# EAGLE library part TLV320AIC3100 (library everykey)
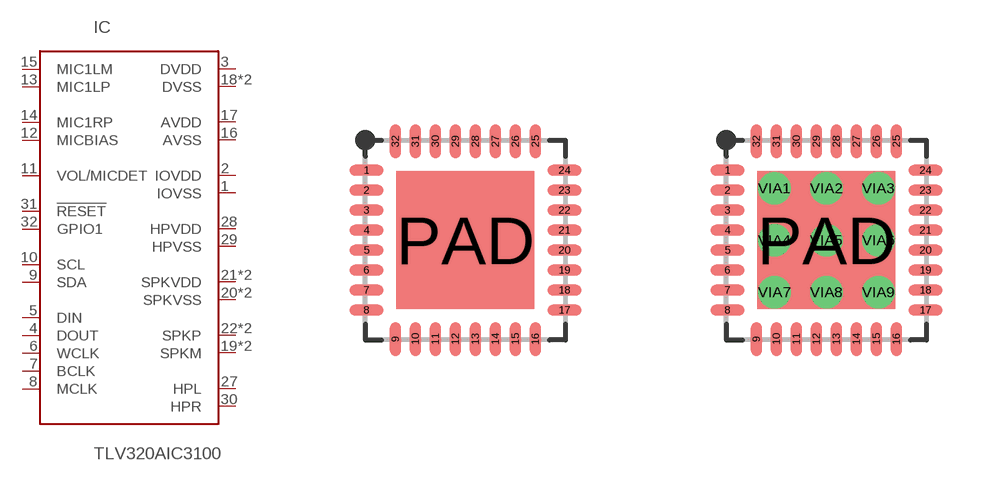
[diagram p44: symbol with the pads of QFN32-0.5-EP; footprints QFN32-0.5-EP, QFN32-0.5-EP-VIAS]

Designator prefix IC

## TLV320AIC3100QFN  [QFN32-0.5-EP]
1  IOVSS  pwr
2  IOVDD  pwr
3  DVDD  pwr
4  DOUT  out
5  DIN  in
6  WCLK  in
7  BCLK
8  MCLK  in
9  SDA
10  SCL
11  VOL/MICDET  in
12  MICBIAS  out
13  MIC1LP  in
14  MIC1RP  in
15  MIC1LM  in
16  AVSS  pwr
17  AVDD  pwr
18  DVSS  pwr
19  SPKM  out
20  SPKVSS  pwr
21  SPKVDD  pwr
22  SPKP  out
23  SPKM  out
24  SPKVDD  pwr
25  SPKVSS  pwr
26  SPKP  out
27  HPL  out
28  HPVDD  pwr
29  HPVSS  pwr
30  HPR  out
31  !RESET  in
32  GPIO1
PAD  DVSS  pwr

## TLV320AIC3100VIAS  [QFN32-0.5-EP-VIAS]
1  IOVSS  pwr
2  IOVDD  pwr
3  DVDD  pwr
4  DOUT  out
5  DIN  in
6  WCLK  in
7  BCLK
8  MCLK  in
9  SDA
10  SCL
11  VOL/MICDET  in
12  MICBIAS  out
13  MIC1LP  in
14  MIC1RP  in
15  MIC1LM  in
16  AVSS  pwr
17  AVDD  pwr
18  DVSS  pwr
19  SPKM  out
20  SPKVSS  pwr
21  SPKVDD  pwr
22  SPKP  out
23  SPKM  out
24  SPKVDD  pwr
25  SPKVSS  pwr
26  SPKP  out
27  HPL  out
28  HPVDD  pwr
29  HPVSS  pwr
30  HPR  out
31  !RESET  in
32  GPIO1
PAD  DVSS  pwr
VIA1  DVSS  pwr
VIA2  DVSS  pwr
VIA3  DVSS  pwr
VIA4  DVSS  pwr
VIA5  DVSS  pwr
VIA6  DVSS  pwr
VIA7  DVSS  pwr
VIA8  DVSS  pwr
VIA9  DVSS  pwr

## Footprint QFN32-0.5-EP (pad centres in mm)
QFN package, 32 pins, 0.5mm pitch, exposed pad
smd 0.85 x 0.28: 1 -2.475,1.75; 2 -2.475,1.25; 3 -2.475,0.75; 4 -2.475,0.25; 5 -2.475,-0.25; 6 -2.475,-0.75; 7 -2.475,-1.25; 8 -2.475,-1.75; 17 2.475,-1.75; 18 2.475,-1.25; 19 2.475,-0.75; 20 2.475,-0.25; 21 2.475,0.25; 22 2.475,0.75; 23 2.475,1.25; 24 2.475,1.75
smd 0.28 x 0.85: 9 -1.75,-2.475; 10 -1.25,-2.475; 11 -0.75,-2.475; 12 -0.25,-2.475; 13 0.25,-2.475; 14 0.75,-2.475; 15 1.25,-2.475; 16 1.75,-2.475; 25 1.75,2.475; 26 1.25,2.475; 27 0.75,2.475; 28 0.25,2.475; 29 -0.25,2.475; 30 -0.75,2.475; 31 -1.25,2.475; 32 -1.75,2.475
smd 3.45 x 3.45: PAD 0,0

## Footprint QFN32-0.5-EP-VIAS (pad centres in mm)
QFN package, 32 pins, 0.5mm pitch, exposed pad with 9 thermal vias
smd 0.85 x 0.28: 1 -2.475,1.75; 2 -2.475,1.25; 3 -2.475,0.75; 4 -2.475,0.25; 5 -2.475,-0.25; 6 -2.475,-0.75; 7 -2.475,-1.25; 8 -2.475,-1.75; 17 2.475,-1.75; 18 2.475,-1.25; 19 2.475,-0.75; 20 2.475,-0.25; 21 2.475,0.25; 22 2.475,0.75; 23 2.475,1.25; 24 2.475,1.75
smd 0.28 x 0.85: 9 -1.75,-2.475; 10 -1.25,-2.475; 11 -0.75,-2.475; 12 -0.25,-2.475; 13 0.25,-2.475; 14 0.75,-2.475; 15 1.25,-2.475; 16 1.75,-2.475; 25 1.75,2.475; 26 1.25,2.475; 27 0.75,2.475; 28 0.25,2.475; 29 -0.25,2.475; 30 -0.75,2.475; 31 -1.25,2.475; 32 -1.75,2.475
smd 3.45 x 3.45: PAD 0,0
drill 0.3: VIA1 -1.3,1.3; VIA2 0,1.3; VIA3 1.3,1.3; VIA4 -1.3,0; VIA5 0,0; VIA6 1.3,0; VIA7 -1.3,-1.3; VIA8 0,-1.3; VIA9 1.3,-1.3